# EAGLE library part KEL8817-200-170S-F (library 030Card)
Original design by Edu Arana Pinout corrected and signals added by John Hertell
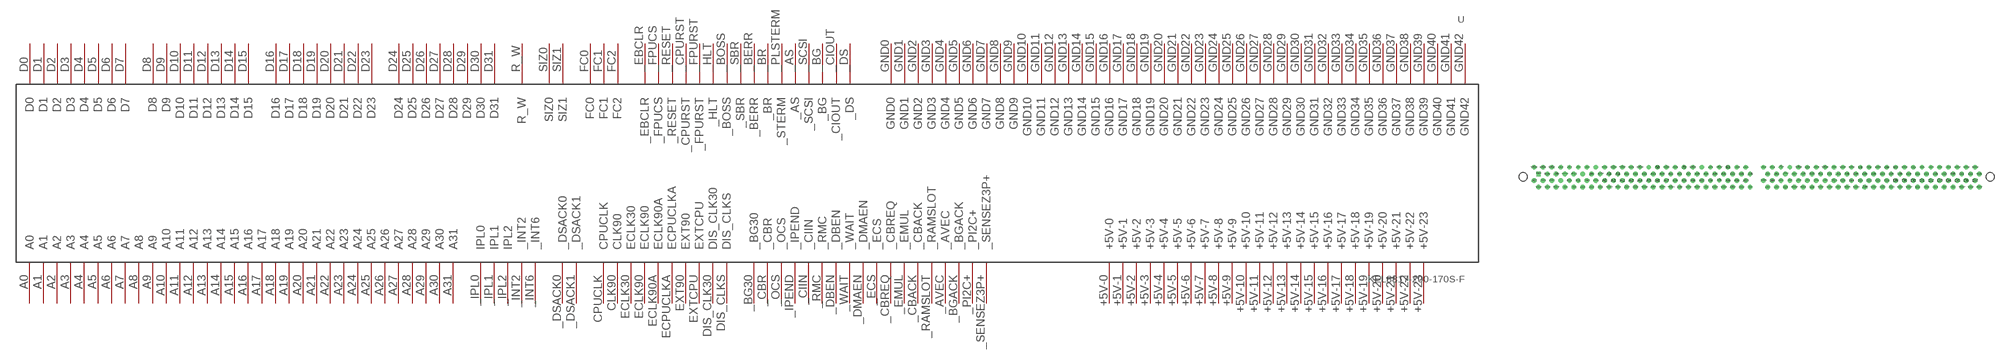
[diagram p1: symbol with the pads of KEL8817-200-170S-F; footprint KEL8817-200-170S-F]

Designator prefix -

## KEL8817-200-170S-F  [KEL8817-200-170S-F]
+5V-0  +5V-0
+5V-1  +5V-1
+5V-2  +5V-2
+5V-3  +5V-3
+5V-4  +5V-4
+5V-5  +5V-5
+5V-6  +5V-6
+5V-7  +5V-7
+5V-8  +5V-8
+5V-9  +5V-9
+5V-10  +5V-10
+5V-11  +5V-11
+5V-12  +5V-12
+5V-13  +5V-13
+5V-14  +5V-14
+5V-15  +5V-15
+5V-16  +5V-16
+5V-17  +5V-17
+5V-18  +5V-18
+5V-19  +5V-19
+5V-20  +5V-20
+5V-21  +5V-21
+5V-22  +5V-22
+5V-23  +5V-23
_AS  _AS
_AVEC  _AVEC
_BERR  _BERR
_BG  _BG
_BG30  _BG30
_BGACK  _BGACK
_BOSS  _BOSS
_BR  _BR
_CBACK  _CBACK
_CBR  _CBR
_CBREQ  _CBREQ
_CIIN  _CIIN
_CIOUT  _CIOUT
_CPURST  _CPURST
_DBEN  _DBEN
_DMAEN  _DMAEN
_DS  _DS
_DSACK0  _DSACK0
_DSACK1  _DSACK1
_EBCLR  _EBCLR
_ECS  _ECS
_EMUL  _EMUL
_FPUCS  _FPUCS
_FPURST  _FPURST
_HLT  _HLT
_INT2  _INT2
_INT6  _INT6
_IPEND  _IPEND
_IPL0  IPL0
_IPL1  IPL1
_IPL2  IPL2
_OCS  _OCS
_PI2C+  _PI2C+
_PLSTERM  _STERM
_RAMSLOT  _RAMSLOT
_RESET  _RESET
_RMC  _RMC
_SBR  _SBR
_SCSI  _SCSI
_SENSEZ3P+  _SENSEZ3P+
_WAIT  _WAIT
A0  A0
A1  A1
A2  A2
A3  A3
A4  A4
A5  A5
A6  A6
A7  A7
A8  A8
A9  A9
A10  A10
A11  A11
A12  A12
A13  A13
A14  A14
A15  A15
A16  A16
A17  A17
A18  A18
A19  A19
A20  A20
A21  A21
A22  A22
A23  A23
A24  A24
A25  A25
A26  A26
A27  A27
A28  A28
A29  A29
A30  A30
A31  A31
CLK90  CLK90
CPUCLK  CPUCLK
D0  D0
D1  D1
D2  D2
D3  D3
D4  D4
D5  D5
D6  D6
D7  D7
D8  D8
D9  D9
D10  D10
D11  D11
D12  D12
D13  D13
D14  D14
D15  D15
D16  D16
D17  D17
D18  D18
D19  D19
D20  D20
D21  D21
D22  D22
D23  D23
D24  D24
D25  D25
D26  D26
D27  D27
D28  D28
D29  D29
D30  D30
D31  D31
DIS_CLK30  DIS_CLK30
DIS_CLKS  DIS_CLKS
ECLK30  ECLK30
ECLK90  ECLK90
ECLK90A  ECLK90A
ECPUCLKA  ECPUCLKA
EXT90  EXT90
EXTCPU  EXTCPU
FC0  FC0
FC1  FC1
FC2  FC2
GND0  GND0
GND1  GND1
GND2  GND2
GND3  GND3
GND4  GND4
GND5  GND5
GND6  GND6
GND7  GND7
GND8  GND8
GND9  GND9
GND10  GND10
GND11  GND11
GND12  GND12
GND13  GND13
GND14  GND14
GND15  GND15
GND16  GND16
GND17  GND17
GND18  GND18
GND19  GND19
GND20  GND20
GND21  GND21
GND22  GND22
GND23  GND23
GND24  GND24
GND25  GND25
GND26  GND26
GND27  GND27
GND28  GND28
GND29  GND29
GND30  GND30
GND31  GND31
GND32  GND32
GND33  GND33
GND34  GND34
GND35  GND35
GND36  GND36
GND37  GND37
GND38  GND38
GND39  GND39
GND40  GND40
GND41  GND41
GND42  GND42
R_W  R_W
SIZ0  SIZ0
SIZ1  SIZ1

## Footprint KEL8817-200-170S-F (pad centres in mm)
KEL 8817-200-170S-F Connector. Cad by Edu Arana
drill 0.8: 58 -27.94,2.794; 70 -20.32,2.794; 90 -7.62,2.794; 111 8.89,-2.921; 122 15.24,2.794; 123 16.51,-2.921; 146 30.48,2.794; 150 33.02,2.794; 158 38.1,2.794; 162 40.64,2.794; 170 45.72,2.794; 171 46.99,-2.921; +5V-0 -55.88,2.794; +5V-1 -53.34,2.794; +5V-2 -50.8,2.794; +5V-3 -48.26,2.794; +5V-4 -5.08,2.794; +5V-5 -2.54,2.794; +5V-6 2.54,2.794; +5V-7 5.08,2.794; +5V-8 48.26,2.794; +5V-9 50.8,2.794; +5V-10 53.34,2.794; +5V-11 55.88,2.794; +5V-12 57.15,-2.921; +5V-13 54.61,-2.921; +5V-14 52.07,-2.921; +5V-15 49.53,-2.921; +5V-16 6.35,-2.921; +5V-17 3.81,-2.921; +5V-18 -1.27,-2.921; +5V-19 -3.81,-2.921; +5V-20 -46.99,-2.921; +5V-21 -49.53,-2.921; +5V-22 -52.07,-2.921; +5V-23 -54.61,-2.921; _AS 24.13,0.889; _AVEC -58.42,-1.016; _BERR -44.45,0.889; _BG 6.35,0.889; _BG30 39.37,-2.921; _BGACK -60.96,-1.016; _BOSS -52.07,0.889; _BR -46.99,0.889; _CBACK -48.26,-1.016; _CBR 31.75,-2.921; _CBREQ -45.72,-1.016; _CIIN 20.32,-1.016; _CIOUT 3.81,0.889; _CPURST 8.89,0.889; _DBEN 2.54,-1.016; _DMAEN -21.59,-2.921; _DS -1.27,0.889; _DSACK0 -6.35,-2.921; _EBCLR 11.43,0.889; _ECS -2.54,-1.016; _EMUL -44.45,-2.921; _FPUCS 22.86,2.794; _FPURST 7.62,2.794; _HLT -63.5,-1.016; _INT2 -12.7,2.794; _INT6 -36.83,-2.921; _IPEND 10.16,-1.016; _IPL0 12.7,-1.016; _IPL1 15.24,-1.016; _IPL2 17.78,-1.016; _OCS 22.86,-1.016; _PI2C+ -13.97,-2.921; _PLSTERM -49.53,0.889; _RAMSLOT -55.88,-1.016; _RESET 13.97,0.889; _RMC 5.08,-1.016; _SBR -57.15,0.889; _SCSI -22.86,2.794; _SENSEZ3P+ 10.16,2.794; _WAIT -29.21,-2.921; A0 -43.18,-1.016; A1 -40.64,-1.016; A2 -38.1,-1.016; A3 -35.56,-1.016; A4 -33.02,-1.016; A5 -30.48,-1.016; A6 -27.94,-1.016; A7 -25.4,-1.016; A8 -41.91,0.889; A9 -39.37,0.889; A10 -36.83,0.889; A11 -34.29,0.889; A12 -31.75,0.889; A13 -29.21,0.889; A14 -26.67,0.889; A15 -24.13,0.889; A16 -21.59,0.889; A17 -19.05,0.889; A18 -16.51,0.889; A19 -13.97,0.889; A20 -11.43,0.889; A21 -8.89,0.889; A22 -6.35,0.889; A23 -3.81,0.889; A24 -22.86,-1.016; A25 -20.32,-1.016; A26 -17.78,-1.016; A27 -15.24,-1.016; A28 -12.7,-1.016; A30 -7.62,-1.016; A31 -5.08,-1.016; CLK90 17.78,2.794; CPUCLK 24.13,-2.921; D0 45.72,-1.016; D1 48.26,-1.016; D2 50.8,-1.016; D3 53.34,-1.016; D4 55.88,-1.016; D5 58.42,-1.016; D6 60.96,-1.016; D7 63.5,-1.016; D8 43.18,-1.016; D9 40.64,-1.016; D10 38.1,-1.016; D11 35.56,-1.016; D12 33.02,-1.016; D13 30.48,-1.016; D14 27.94,-1.016; D15 25.4,-1.016; D16 46.99,0.889; D17 49.53,0.889; D18 52.07,0.889; D19 54.61,0.889; D20 57.15,0.889; D21 59.69,0.889; D22 62.23,0.889; D23 64.77,0.889; D24 44.45,0.889; D25 41.91,0.889; D26 39.37,0.889; D27 36.83,0.889; D28 34.29,0.889; D29 31.75,0.889; D30 29.21,0.889; D31 26.67,0.889; DIS_CLK30 -15.24,2.794; DIS_CLKS -45.72,2.794; ECLK30 -43.18,2.794; ECLK90 -35.56,2.794; ECLK90A -38.1,2.794; ECPUCLKA -30.48,2.794; EXT90 -54.61,0.889; EXTCPU 7.62,-1.016; FC0 -53.34,-1.016; FC1 -50.8,-1.016; FC2 19.05,0.889; GND0 -63.5,2.794; GND1 -60.96,2.794; GND2 -58.42,2.794; GND3 -40.64,2.794; GND4 -33.02,2.794; GND5 -25.4,2.794; GND6 -17.78,2.794; GND7 -10.16,2.794; GND8 12.7,2.794; GND9 20.32,2.794; GND10 25.4,2.794; GND11 27.94,2.794; GND12 35.56,2.794; GND13 43.18,2.794; GND14 58.42,2.794; GND15 60.96,2.794; GND16 63.5,2.794; GND17 64.77,-2.921; GND18 62.23,-2.921; GND19 59.69,-2.921; GND20 44.45,-2.921; GND21 41.91,-2.921; GND22 36.83,-2.921; GND23 34.29,-2.921; GND24 29.21,-2.921; GND25 26.67,-2.921; GND26 21.59,-2.921; GND27 19.05,-2.921; GND28 13.97,-2.921; GND29 11.43,-2.921; GND30 -8.89,-2.921; GND31 -11.43,-2.921; GND32 -16.51,-2.921; GND33 -19.05,-2.921; GND34 -24.13,-2.921; GND35 -26.67,-2.921; GND36 -31.75,-2.921; GND37 -34.29,-2.921; GND38 -39.37,-2.921; GND39 -41.91,-2.921; GND40 -57.15,-2.921; GND41 -59.69,-2.921; GND42 -62.23,-2.921; R_W -59.69,0.889; SIZ0 16.51,0.889; SIZ1 21.59,0.889
drill 0.8 square: _DSACK1 -62.23,0.889
drill 0.7: A29 -10.16,-1.016
hole 2.362 at 67.903,0.042
hole 2.362 at -66.68,0.042